# Altium footprint library QFN45P50_700X700X100L55X24T377N.PcbLib: 1 footprints
Each footprint in its own frame and in the unit in brackets; x right, y up, seen from the top. Pads: shape width x height; smd on the part's side, far side on the other; paste and mask are expansions set on the pad; w line width, h text height; cw(c..) or ccw(c..) is an arc to the next point about the centre after c.
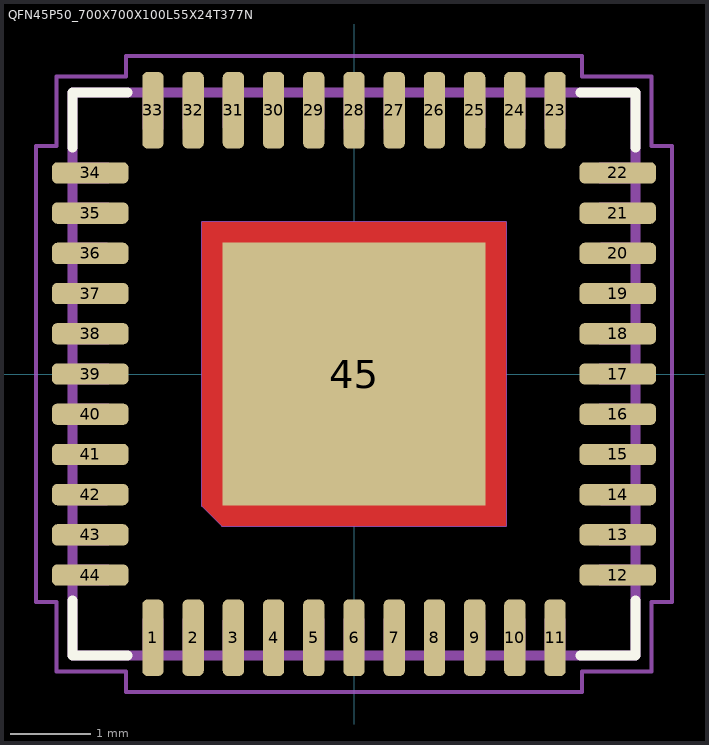
[diagram p0: the footprint, top view; thin cyan lines are the x and y axes]

## QFN45P50_700X700X100L55X24T377N [mm] "Quad Flat No-Lead (QFN) with Thermal Tab, 0.50 mm pitch;  square, 11 pin X 11 pin, 7.00 mm L X 7.00 mm W X 1.00 mm H Body"
height 1
pads (45):
  rrect50% 0.264x0.953 smd: 1(-2.5,-3.28) 2(-2,-3.28) 3(-1.5,-3.28) 4(-1,-3.28) 5(-0.5,-3.28) 6(0,-3.28) 7(0.5,-3.28) 8(1,-3.28) 9(1.5,-3.28) 10(2,-3.28) 11(2.5,-3.28) 23(2.5,3.28) 24(2,3.28) 25(1.5,3.28) 26(1,3.28) 27(0.5,3.28) 28(0,3.28) 29(-0.5,3.28) 30(-1,3.28) 31(-1.5,3.28) 32(-2,3.28) 33(-2.5,3.28)
  rrect50% 0.953x0.264 smd: 12(3.28,-2.5) 13(3.28,-2) 14(3.28,-1.5) 15(3.28,-1) 16(3.28,-0.5) 17(3.28,0) 18(3.28,0.5) 19(3.28,1) 20(3.28,1.5) 21(3.28,2) 22(3.28,2.5) 34(-3.28,2.5) 35(-3.28,2) 36(-3.28,1.5) 37(-3.28,1) 38(-3.28,0.5) 39(-3.28,0) 40(-3.28,-0.5) 41(-3.28,-1) 42(-3.28,-1.5) 43(-3.28,-2) 44(-3.28,-2.5)
  rect 3.275x3.275 smd paste-3.275 mask-3.275: 45(0,0)
Top Layer:
  region: 1.887,-1.887 -1.637,-1.887 -1.887,-1.637 -1.887,1.887 1.887,1.887
Top Overlay:
  lines w0.12: -3.5,-2.812 -3.5,-3.5 -2.812,-3.5 ; -3.5,2.812 -3.5,3.5 -2.812,3.5 ; 2.812,-3.5 3.5,-3.5 3.5,-2.812 ; 2.812,3.5 3.5,3.5 3.5,2.812
Top Paste:
  region: 1.612,-1.612 0.276,-1.612 0.276,-0.276 1.612,-0.276
  region: 1.612,0.276 0.276,0.276 0.276,1.612 1.612,1.612
  region: -0.276,-1.612 -1.612,-1.612 -1.612,-0.276 -0.276,-0.276
  region: -0.276,0.276 -1.612,0.276 -1.612,1.612 -0.276,1.612
Top Solder:
  region: 1.887,-1.887 -1.637,-1.887 -1.887,-1.637 -1.887,1.887 1.887,1.887
Mechanical 3:
  lines w0.12: -3.5,-3.5 -3.5,3.5 3.5,3.5 3.5,-3.5 -3.5,-3.5
Mechanical 5:
  drawing of 185 lines, arcs and shapes, not listed
Mechanical 7:
  circle w0.05: c0,0 r0.25
  lines w0.05: -0.35,0 0.35,0 ; 0,-0.35 0,0.35 ; -3.956,-2.832 -3.956,2.832 -3.7,2.832 -3.7,3.7 -2.832,3.7 -2.832,3.956 2.832,3.956 2.832,3.7 3.7,3.7 3.7,2.832 3.956,2.832 3.956,-2.832 3.7,-2.832 3.7,-3.7 2.832,-3.7 2.832,-3.956 -2.832,-3.956 -2.832,-3.7 -3.7,-3.7 -3.7,-2.832 -3.956,-2.832
Mechanical 9:
  text "'.Designator'" at -3.746,4.762 h1.52
3D body "QFN45P50_700X700X100L55X24T377.STEP": height 1, standoff 0, extent -3.55,-3.55 3.55,3.55
3D body: height 3.65, standoff -3.65, extent -3.956,-3.956 3.956,3.956